# Altium schematic symbol library Header 2X8.Schlib: 1 symbol
Pins are listed as number, name and electrical type; pins without a type are passive.

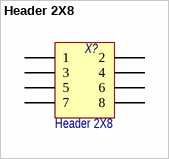
[diagram p0: symbol Header 2X8]

## Header 2X8
designator X?
Header, 8-Pin, Dual row; Потребление, Вт: 0,0; Назначение: Header, 8-Pin, Dual row; Наименование: Header 2X8
footprint PBD-8
footprint PBD-8-narrow
pins: 1, 2, 3, 4, 5, 6, 7, 8